# EAGLE library part SLG46811V (library GREENPAK)
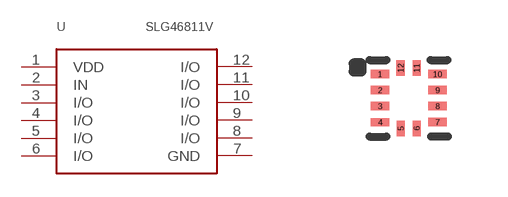
[diagram p56: symbol with the pads of STQFN-12-1.6X1.6_N; footprint STQFN-12-1.6X1.6_N]

Designator prefix -

## SLG46811V  [STQFN-12-1.6X1.6_N]
1  VDD
2  IN
3  I/O
4  I/O
5  I/O
6  I/O
7  GND
8  I/O
9  I/O
10  I/O
11  I/O
12  I/O

## Footprint STQFN-12-1.6X1.6_N (pad centres in mm)
smd 0.466 x 0.21: 1 -0.717,0.6; 2 -0.717,0.2; 3 -0.717,-0.2; 4 -0.717,-0.6; 7 0.718,-0.6; 8 0.719,-0.199; 9 0.719,0.201; 10 0.718,0.6
smd 0.21 x 0.39: 5 -0.2,-0.755; 6 0.2,-0.755; 11 0.2,0.755; 12 -0.2,0.755